# EAGLE library part TC621CEOA (library SmoothTechnology)
IC, 5V, Dual Trip Point Temperature Sensors, 8-SOIC
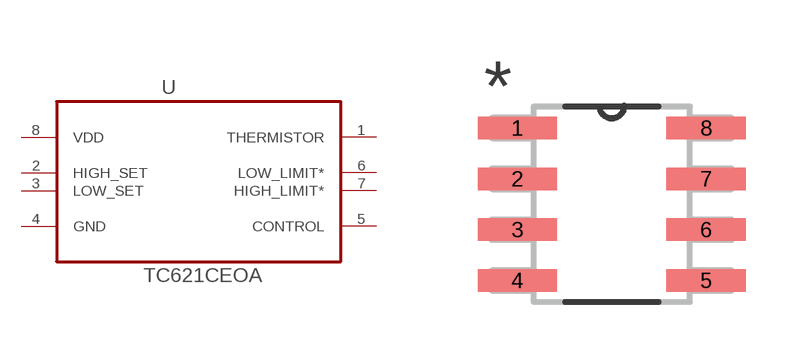
[diagram p0: symbol with the pads of SOIC127P600X175-8N; footprint SOIC127P600X175-8N]

Designator prefix U

## TC621CEOA (MPN: TC621CEOA; OC_FARNELL: 1852239; OC_NEWARK: 92C6324; PACKAGE: 8-SOIC; SUPPLIER: Microchip)  [SOIC127P600X175-8N]
1  THERMISTOR  in
2  HIGH_SET  in
3  LOW_SET  in
4  GND  pwr
5  CONTROL  out
6  LOW_LIMIT*  out
7  HIGH_LIMIT*  out
8  VDD  pwr

## Footprint SOIC127P600X175-8N (pad centres in mm)
smd 1.981 x 0.559: 1 -2.362,1.905; 2 -2.362,0.635; 3 -2.362,-0.635; 4 -2.362,-1.905; 5 2.362,-1.905; 6 2.362,-0.635; 7 2.362,0.635; 8 2.362,1.905